# Altium footprint library KP_Fedorov_SM5-71B.PcbLib: 17 footprints (part 1 of 2)
Each footprint in its own frame and in the unit in brackets; x right, y up, seen from the top. Pads: shape width x height; smd on the part's side, far side on the other; paste and mask are expansions set on the pad; w line width, h text height; cw(c..) or ccw(c..) is an arc to the next point about the centre after c.
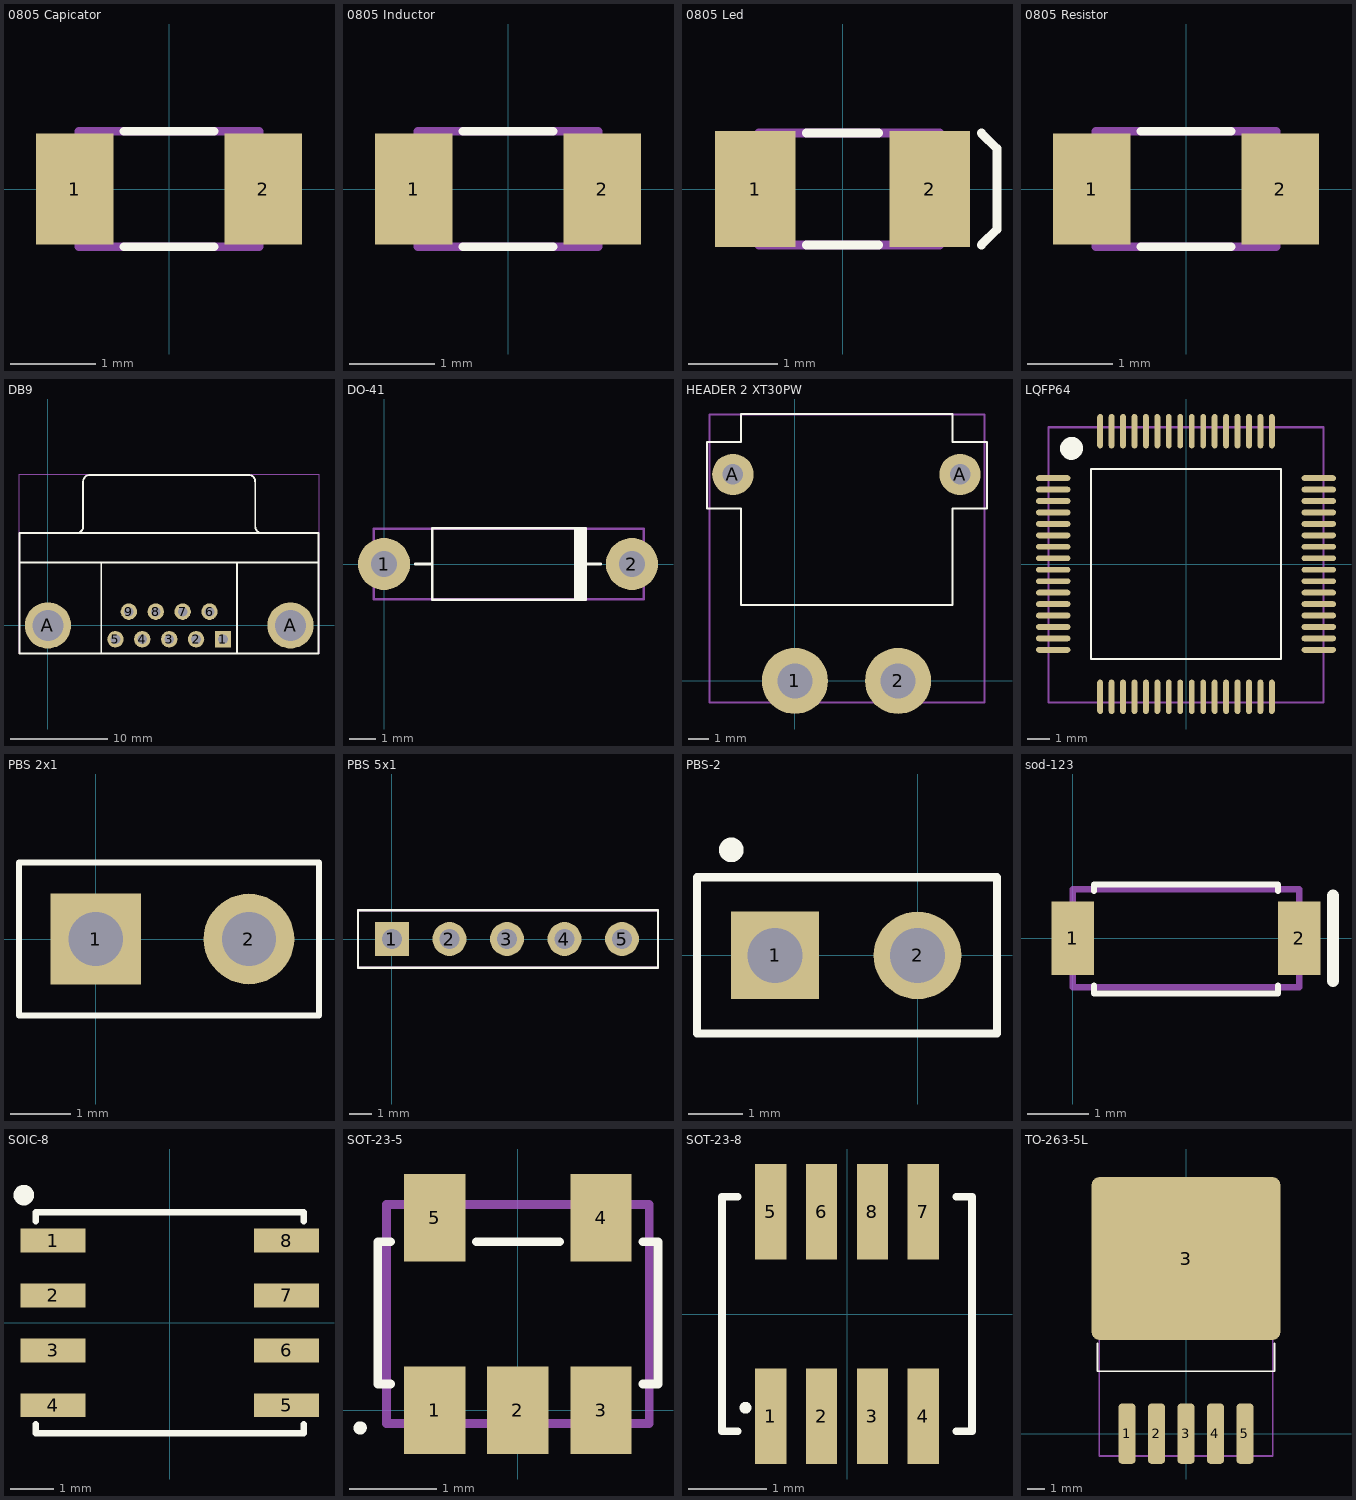
[diagram p0: the footprints below, top view; thin cyan lines are the x and y axes]

## 0805 Capicator [mm]
pads (2):
  rect 0.9x1.3 smd: 1(-1.1,0) 2(1.1,0)
Top Overlay:
  lines w0.1: -0.525,-0.675 0.525,-0.675 ; -0.525,0.675 0.525,0.675
Mechanical 13:
  lines w0.1: -1.05,-0.675 -1.05,0.675 1.05,0.675 1.05,-0.675 -1.05,-0.675
3D body "CAPC-0805-T0.75-BN.stp": height 0.75, standoff 0, extent -1.05,-0.675 1.05,0.675

## 0805 Inductor [mm]
pads (2):
  rect 0.9x1.3 smd: 1(-1.1,0) 2(1.1,0)
Top Overlay:
  lines w0.1: -0.525,-0.675 0.525,-0.675 ; -0.525,0.675 0.525,0.675
Mechanical 13:
  lines w0.1: -1.05,-0.675 -1.05,0.675 1.05,0.675 1.05,-0.675 -1.05,-0.675
3D body "CAPC-0805-T0.75-BN.stp": height 0.75, standoff 0, extent -1.05,-0.675 1.05,0.675

## 0805 Led [mm]
pads (2):
  rect 0.9x1.3 smd: 1(-0.975,0) 2(0.975,0)
Top Overlay:
  lines w0.1: -0.4,-0.625 0.4,-0.625 ; -0.4,0.625 0.4,0.625 ; 1.55,-0.625 1.725,-0.45 1.725,0.45 1.55,0.625
Mechanical 13:
  lines w0.1: -0.935,-0.625 1.085,-0.625 1.085,0.625 -0.935,0.625 -0.935,-0.625
3D body "LED0805.step": height 1.1, standoff 0, extent -0.935,-0.625 1.085,0.625

## 0805 Resistor [mm]
pads (2):
  rect 0.9x1.3 smd: 1(-1.1,0) 2(1.1,0)
Top Overlay:
  lines w0.1: -0.525,-0.675 0.525,-0.675 ; -0.525,0.675 0.525,0.675
Mechanical 13:
  lines w0.1: -1.05,-0.675 -1.05,0.675 1.05,0.675 1.05,-0.675 -1.05,-0.675
3D body "RESC-0805.stp": height 0.6, standoff 0, extent -1.05,-0.675 1.05,0.675

## DB9 [mm]
pads (11):
  rect 1.69x1.69 hole 1: 1(18.035,-1.42)
  round 1.69 hole 1: 2(15.265,-1.42) 3(12.495,-1.42) 4(9.725,-1.42) 5(6.955,-1.42) 6(16.65,1.42) 7(13.88,1.42) 8(11.11,1.42) 9(8.34,1.42)
  round 4.76 hole 3.2: A(0,0) A(24.99,0)
Top Overlay:
  lines w0.2: -2.905,6.5 27.895,6.5 ; 2.935,9.505 ccw(c2.935,10.2) 3.63,10.2 3.63,14.8 ; 3.635,14.805 cw(c4.33,14.805) 4.33,15.5 20.66,15.5 cw(c20.66,14.805) 21.355,14.805 ; 5.495,-2.9 5.495,6.5 ; 19.495,-2.9 19.495,6.5 ; 21.36,14.8 21.36,10.2 ccw(c22.055,10.2) 22.055,9.505 ; -2.905,-2.9 -2.905,9.5 27.895,9.5 27.895,-2.9 -2.905,-2.9
Mechanical 13:
  lines w0.1: -2.975,-2.85 27.925,-2.85 27.925,15.55 -2.975,15.55 -2.975,-2.85
3D body "DB9.STEP": height 12.53, standoff -3.97, extent -2.975,-2.85 27.925,15.55

## DO-41 [mm]
pads (2):
  round 2 hole 1: 1(0,0) 2(9.5,0)
Top Overlay:
  rectangle: 7.275,-1.375 7.725,1.375
  lines w0.1: 1.2,0 1.85,0 ; 7.75,0 8.3,0 ; 1.85,-1.375 1.85,1.375 7.725,1.375 7.725,-1.375 1.85,-1.375
Mechanical 13:
  lines w0.1: -0.4,-1.35 9.95,-1.35 9.95,1.35 -0.4,1.35 -0.4,-1.35
3D body "User Library-DO-41_375mil.STEP": height 2.83, standoff -2.52, extent -0.392,-1.35 9.992,1.35

## HEADER 2 XT30PW [mm]
pads (4):
  round 3.2 hole 1.7: 1(0,0) 2(5,0)
  round 2 hole 1: A(-3,10) A(8,10)
Top Overlay:
  lines w0.1: -4.25,8.35 -2.6,8.35 -2.6,3.675 7.625,3.675 7.625,8.35 9.3,8.35 9.3,11.575 7.625,11.575 7.625,12.925 -2.6,12.925 -2.6,11.575 -4.25,11.575 -4.25,8.35
Mechanical 13:
  lines w0.1: -4.125,-1.05 9.175,-1.05 9.175,12.9 -4.125,12.9 -4.125,-1.05
3D body "User Library-XT30PW-M.step": height 5.1, standoff -1.9, extent -4.125,-1.05 9.175,12.9

## LQFP64 [mm]
pads (64):
  oval 1.5x0.254 smd paste+0 mask+0.02: 1(-5.8,3.75) 2(-5.8,3.25) 3(-5.8,2.75) 4(-5.8,2.25) 5(-5.8,1.75) 6(-5.8,1.25) 7(-5.8,0.75) 8(-5.8,0.25) 9(-5.8,-0.25) 10(-5.8,-0.75) 11(-5.8,-1.25) 12(-5.8,-1.75) 13(-5.8,-2.25) 14(-5.8,-2.75) 15(-5.8,-3.25) 16(-5.8,-3.75) 33(5.8,-3.75) 34(5.8,-3.25) 35(5.8,-2.75) 36(5.8,-2.25) 37(5.8,-1.75) 38(5.8,-1.25) 39(5.8,-0.75) 40(5.8,-0.25) 41(5.8,0.25) 42(5.8,0.75) 43(5.8,1.25) 44(5.8,1.75) 45(5.8,2.25) 46(5.8,2.75) 47(5.8,3.25) 48(5.8,3.75)
  oval 0.254x1.5 smd paste+0 mask+0.02: 17(-3.75,-5.8) 18(-3.25,-5.8) 19(-2.75,-5.8) 20(-2.25,-5.8) 21(-1.75,-5.8) 22(-1.25,-5.8) 23(-0.75,-5.8) 24(-0.25,-5.8) 25(0.25,-5.8) 26(0.75,-5.8) 27(1.25,-5.8) 28(1.75,-5.8) 29(2.25,-5.8) 30(2.75,-5.8) 31(3.25,-5.8) 32(3.75,-5.8) 49(3.75,5.8) 50(3.25,5.8) 51(2.75,5.8) 52(2.25,5.8) 53(1.75,5.8) 54(1.25,5.8) 55(0.75,5.8) 56(0.25,5.8) 57(-0.25,5.8) 58(-0.75,5.8) 59(-1.25,5.8) 60(-1.75,5.8) 61(-2.25,5.8) 62(-2.75,5.8) 63(-3.25,5.8) 64(-3.75,5.8)
Top Overlay:
  circle w0.6: c-5,5.05 r0.2
  lines w0.1: -4.15,-4.15 -4.15,4.15 4.15,4.15 4.15,-4.15 -4.15,-4.15
Mechanical 13:
  lines w0.1: -6,-6.05 -6,5.975 6,5.975 6,-6.05 -6,-6.05
3D body "User Library-LQFP64-1.step": height 1.56, standoff 0, extent -6,-6.025 6,5.975

## PBS 2x1 [mm] "Connector; Header; 5 Position"
height 0.1
pads (2):
  rect 1.5x1.5 hole 0.9: 1(0,0)
  round 1.5 hole 0.9: 2(2.54,0)
Top Overlay:
  lines w0.1: -1.27,-1.27 3.7,-1.27 3.7,1.27 -1.27,1.27 -1.27,-1.27
3D body "User Library-PBS-2.STEP": height 8.52, standoff -2.98, extent -1.34,-1.24 3.74,1.3

## PBS 5x1 [mm] "Connector; Header; 5 Position"
pads (5):
  rect 1.5x1.5 hole 0.9: 1(0,0)
  round 1.5 hole 0.9: 2(2.54,0) 3(5.08,0) 4(7.62,0) 5(10.16,0)
Top Overlay:
  lines w0.1: -1.5,-1.27 -1.5,1.27 11.75,1.27 11.75,-1.27 -1.5,-1.27
Mechanical 13:
  lines w0.1: -1.5,-1.275 -1.5,1.275 11.75,1.275 11.75,-1.275 -1.5,-1.275
3D body "User Library-PBS_(DS1023)_1line_connectors_h=5_0_8_5mm_step_2_54mm-1.step": height 8.5, standoff -3, extent -1.52,-1.25 11.68,1.25

## PBS-2 [mm]
height 8
pads (2):
  rect 1.6x1.6 hole 1: 1(-2.6,0)
  round 1.6 hole 1: 2(0,0)
Top Overlay:
  lines w0.15: -4.025,-1.425 -4.025,1.425 1.45,1.425 1.45,-1.425 -4.025,-1.425
  lines w0.254: -3.303,1.939 ccw(c-3.4,1.925) -3.302,1.925
3D body "User Library-PBS-2.STEP": height 8.51, standoff -2.99, extent -3.83,-1.27 1.25,1.27

## sod-123 [mm]
pads (2):
  rect 0.7x1.2 smd: 1(0,0) 2(3.7,0)
Top Overlay:
  lines w0.1: 0.35,-0.775 0.35,-0.9 3.35,-0.9 3.35,-0.775 ; 0.35,0.775 0.35,0.875 3.35,0.875 3.35,0.775
  lines w0.2: 4.25,-0.7 4.25,0.7
Mechanical 13:
  lines w0.1: 0,-0.8 3.7,-0.8 3.7,0.8 0,0.8 0,-0.8
3D body "CircuitWorks-SOD123.step": height -0.42, standoff -1.69, extent 0,-0.8 3.7,0.8

## SOIC-8 [mm]
height 2
pads (8):
  rect 1.5x0.55 smd: 1(-2.7,1.905) 2(-2.7,0.635) 3(-2.7,-0.635) 4(-2.7,-1.905) 5(2.7,-1.905) 6(2.7,-0.635) 7(2.7,0.635) 8(2.7,1.905)
Top Overlay:
  circle w0.254: c-3.375,2.955 r0.112
  lines w0.15: -3.1,-2.345 -3.1,-2.555 3.1,-2.555 3.1,-2.345 ; -3.1,2.355 -3.1,2.54 ; -3.1,2.555 3.1,2.555 ; 3.1,2.355 3.1,2.54
3D body "SOIC-8.step": height 1.75, standoff 0, extent -3,-2.45 3,2.45

## SOT-23-5 [mm]
pads (5):
  rect 0.7x1 smd mask+0.045: 1(-0.95,0) 2(0,0) 3(0.95,0) 4(0.95,2.2) 5(-0.95,2.2)
Top Overlay:
  circle w0.1: c-1.8,-0.2 r0.025
  lines w0.1: -1.45,0.3 -1.6,0.3 -1.6,1.925 -1.45,1.925 ; -0.475,1.925 0.475,1.925 ; 1.425,0.3 1.6,0.3 1.6,1.925 1.425,1.925
Mechanical 13:
  lines w0.1: -1.5,-0.15 1.5,-0.15 1.5,2.35 -1.5,2.35 -1.5,-0.15
3D body "CircuitWorks-SOT-23-5.step": height 1.1, standoff 0, extent -1.5,-0.15 1.5,2.35

## SOT-23-8 [mm]
pads (8):
  rect 0.4x1.22 smd mask+0.045: 1(-0.975,-1.31) 2(-0.325,-1.31) 3(0.325,-1.31) 4(0.975,-1.31) 5(-0.975,1.31) 6(-0.325,1.31) 7(0.975,1.31) 8(0.325,1.31)
Top Overlay:
  circle w0.1: c-1.3,-1.2 r0.025
  lines w0.1: -1.4,-1.5 -1.6,-1.5 -1.6,1.5 -1.4,1.5 ; 1.4,-1.5 1.6,-1.5 1.6,1.5 1.4,1.5
3D body "SOT23-8.stp": height 1.2, standoff 0.02, extent -1.5,-1.418 1.5,1.418

## TO-263-5L [mm]
pads (6):
  rrect50% 1x3.5 smd: 1(-3.4,0) 2(-1.7,0) 3(0,0) 4(1.7,0) 5(3.4,0)
  rrect10% 10.9x9.4 smd: 3(0,10.1)
Top Overlay:
  lines w0.1: -5.1,5.2 -5.1,3.6 5.1,3.6 5.1,5.2
Mechanical 13:
  lines w0.1: -5,-1.29 5,-1.29 5,14.38 -5,14.38 -5,-1.29
3D body "User Library-TO263-5.STEP": height 4.83, standoff 0.03, extent -5,-1.29 5,14.38